# EAGLE library part ESP32-WROOM-32E_M113EH3200PS3Q (library ESP32-WROOM-32E_M113EH3200PS3Q)
WiFi Modules (802.11) SMD module, ESP32-D0WD-V3, ESP32 ECO V3, 4 MB SPI flash, PCB antenna, -40 C ~ +105 C. Source: Datasheet <https://www.espressif.com/sites/default/files/documentation/esp32-wroom-32e_esp32-wroom-32ue_datasheet_en.pdf>
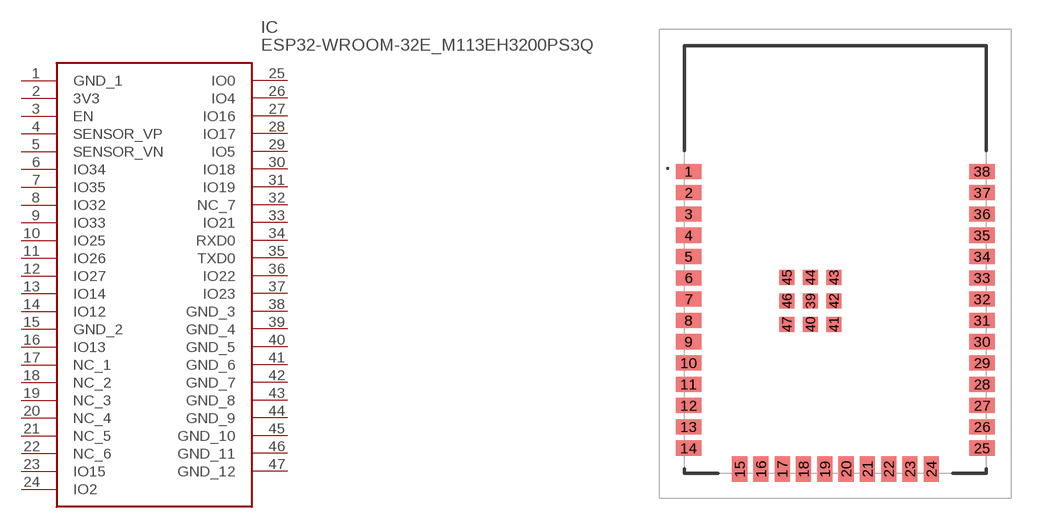
[diagram p0: symbol with the pads of ESP32WROOM32EM113EH3200PS3Q0; footprint ESP32WROOM32EM113EH3200PS3Q0]

Designator prefix IC

## ESP32-WROOM-32E_M113EH3200PS3Q (Description: WiFi Modules (802.11) SMD module, ESP32-D0WD-V3, ESP32 ECO V3, 4 MB SPI flash, PCB antenna, -40 C ~ +105 C.; Height: 3.25mm; Manufacturer_Name: Espressif Systems; Manufacturer_Part_Number: ESP32-WROOM-32E(M113EH3200PS3Q0); Mouser_Part_Number: 356-ESP32WRM320EH3PS; Mouser_Price-Stock: https://www.mouser.co.uk/ProductDetail/Espressif-Systems/ESP32-WROOM-32EM113EH3200PS3Q0?qs=sPbYRqrBIVkiZhzSFda8%2FA%3D%3D)  [ESP32WROOM32EM113EH3200PS3Q0]
1  GND_1
2  3V3
3  EN
4  SENSOR_VP
5  SENSOR_VN
6  IO34
7  IO35
8  IO32
9  IO33
10  IO25
11  IO26
12  IO27
13  IO14
14  IO12
15  GND_2
16  IO13
17  NC_1
18  NC_2
19  NC_3
20  NC_4
21  NC_5
22  NC_6
23  IO15
24  IO2
25  IO0
26  IO4
27  IO16
28  IO17
29  IO5
30  IO18
31  IO19
32  NC_7
33  IO21
34  RXD0
35  TXD0
36  IO22
37  IO23
38  GND_3
39  GND_4
40  GND_5
41  GND_6
42  GND_7
43  GND_8
44  GND_9
45  GND_10
46  GND_11
47  GND_12

## Footprint ESP32WROOM32EM113EH3200PS3Q0 (pad centres in mm)
ESP32-WROOM-32E(M113EH3200PS3Q0)-1
smd 1.5 x 0.9: 1 -8.75,5.26; 2 -8.75,3.99; 3 -8.75,2.72; 4 -8.75,1.45; 5 -8.75,0.18; 6 -8.75,-1.09; 7 -8.75,-2.36; 8 -8.75,-3.63; 9 -8.75,-4.9; 10 -8.75,-6.17; 11 -8.75,-7.44; 12 -8.75,-8.71; 13 -8.75,-9.98; 14 -8.75,-11.25; 25 8.75,-11.25; 26 8.75,-9.98; 27 8.75,-8.71; 28 8.75,-7.44; 29 8.75,-6.17; 30 8.75,-4.9; 31 8.75,-3.63; 32 8.75,-2.36; 33 8.75,-1.09; 34 8.75,0.18; 35 8.75,1.45; 36 8.75,2.72; 37 8.75,3.99; 38 8.75,5.26
smd 0.9 x 1.5: 15 -5.71,-12.5; 16 -4.44,-12.5; 17 -3.17,-12.5; 18 -1.9,-12.5; 19 -0.63,-12.5; 20 0.64,-12.5; 21 1.91,-12.5; 22 3.18,-12.5; 23 4.45,-12.5; 24 5.72,-12.5
smd 0.9 x 0.9: 39 -1.5,-2.46; 40 -1.5,-3.86; 41 -0.1,-3.86; 42 -0.1,-2.46; 43 -0.1,-1.06; 44 -1.5,-1.06; 45 -2.9,-1.06; 46 -2.9,-2.46; 47 -2.9,-3.86